# EAGLE library part LM2931D-ADJ (library v-reg)
LDO VOLTAGE REGULATOR SO-8, adjustable voltage
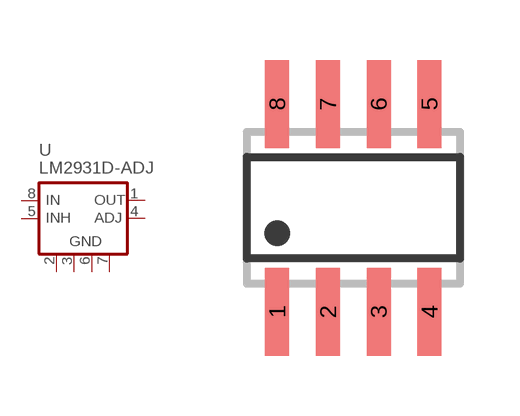
[diagram p11: symbol with the pads of SO08; footprint SO08]

Designator prefix U

## LM2931D-ADJ  [SO08]
1  VOUT  pas
2  GND  in
3  GND  in
4  ADJ  pas
5  INHIBIT  in
6  GND  in
7  GND  in
8  VIN  in

## Footprint SO08 (pad centres in mm)
SMALL OUTLINE INTEGRATED CIRCUIT body 3.9 mm/JEDEC MS-012AA
smd 0.6 x 2.2: 1 -1.905,-2.6; 2 -0.635,-2.6; 3 0.635,-2.6; 4 1.905,-2.6; 5 1.905,2.6; 6 0.635,2.6; 7 -0.635,2.6; 8 -1.905,2.6